# EAGLE library part DAC80501ZDGSR (library DAC80501ZDGSR)
Digital to Analog Converters - DAC True 16-bit, 1-ch, SPI/I2C, voltage-output DAC in WSON package with precision internal reference 10-VSSOP -40 to 125 Source: Datasheet <https://www.ti.com/lit/ds/symlink/dac80501.pdf?ts=1622793671136&ref_url=https%3A%2F%2Fwww.ti.com%2Fstore%2Fti%2Fen%2Fp%2Fproduct%2F%3Fp%3DDAC80501ZDGSR>
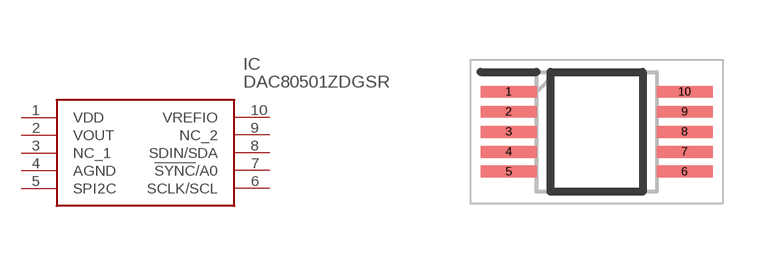
[diagram p0: symbol with the pads of SOP50P490X110-10N; footprint SOP50P490X110-10N]

Designator prefix IC

## DAC80501ZDGSR (Description: Digital to Analog Converters - DAC True 16-bit, 1-ch, SPI/I2C, voltage-output DAC in WSON package with precision internal reference 10-VSSOP -40 to 125; Height: 1.1mm; Manufacturer_Name: Texas Instruments; Manufacturer_Part_Number: DAC80501ZDGSR; Mouser_Part_Number: 595-DAC80501ZDGSR; Mouser_Price-Stock: https://www.mouser.co.uk/ProductDetail/Texas-Instruments/DAC80501ZDGSR?qs=%252B6g0mu59x7KTwAqkifaR1Q%3D%3D)  [SOP50P490X110-10N]
1  VDD
2  VOUT
3  NC_1
4  AGND
5  SPI2C
6  SCLK/SCL
7  !SYNC!/A0
8  SDIN/SDA
9  NC_2
10  VREFIO

## Footprint SOP50P490X110-10N (pad centres in mm)
DGS0010A
smd 1.4 x 0.3: 1 -2.2,1; 2 -2.2,0.5; 3 -2.2,0; 4 -2.2,-0.5; 5 -2.2,-1; 6 2.2,-1; 7 2.2,-0.5; 8 2.2,0; 9 2.2,0.5; 10 2.2,1